# Altium footprint library dualsseg.PcbLib: 1 footprints
Each footprint in its own frame and in the unit in brackets; x right, y up, seen from the top. Pads: shape width x height; smd on the part's side, far side on the other; paste and mask are expansions set on the pad; w line width, h text height; cw(c..) or ccw(c..) is an arc to the next point about the centre after c.
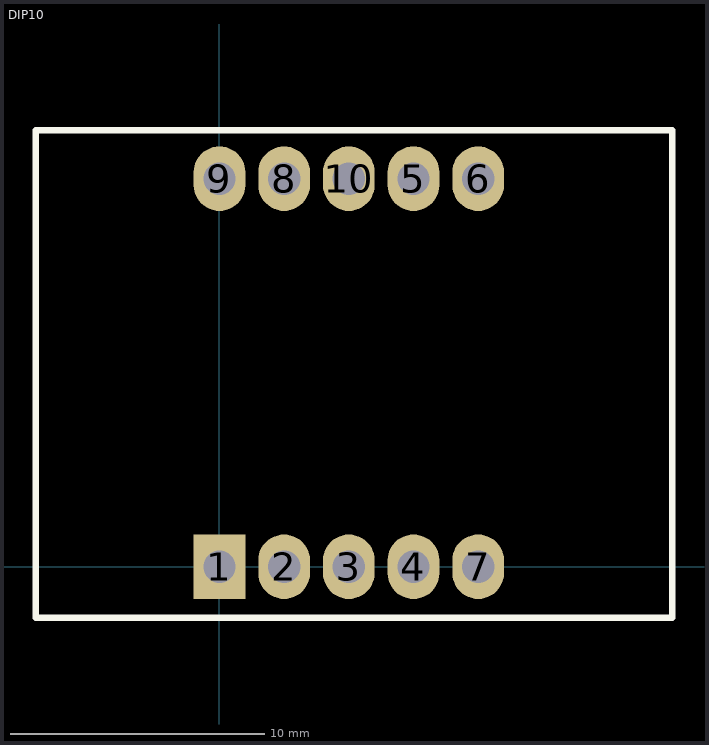
[diagram p0: the footprint, top view; thin cyan lines are the x and y axes]

## DIP10 [mil]
pads (10):
  rect 80x100 hole 50: 1(0,0)
  oval 80x100 hole 50: 2(100,0) 3(200,0) 4(300,0) 5(300,600) 6(400,600) 7(400,0) 8(100,600) 9(0,600) 10(200,600)
Top Overlay:
  lines w10: -284,-79 700,-79 700,675 -284,675 -284,-79